# Altium integrated library Dallas Logic Delay Line.IntLib: 454 symbols (part 3 of 9)

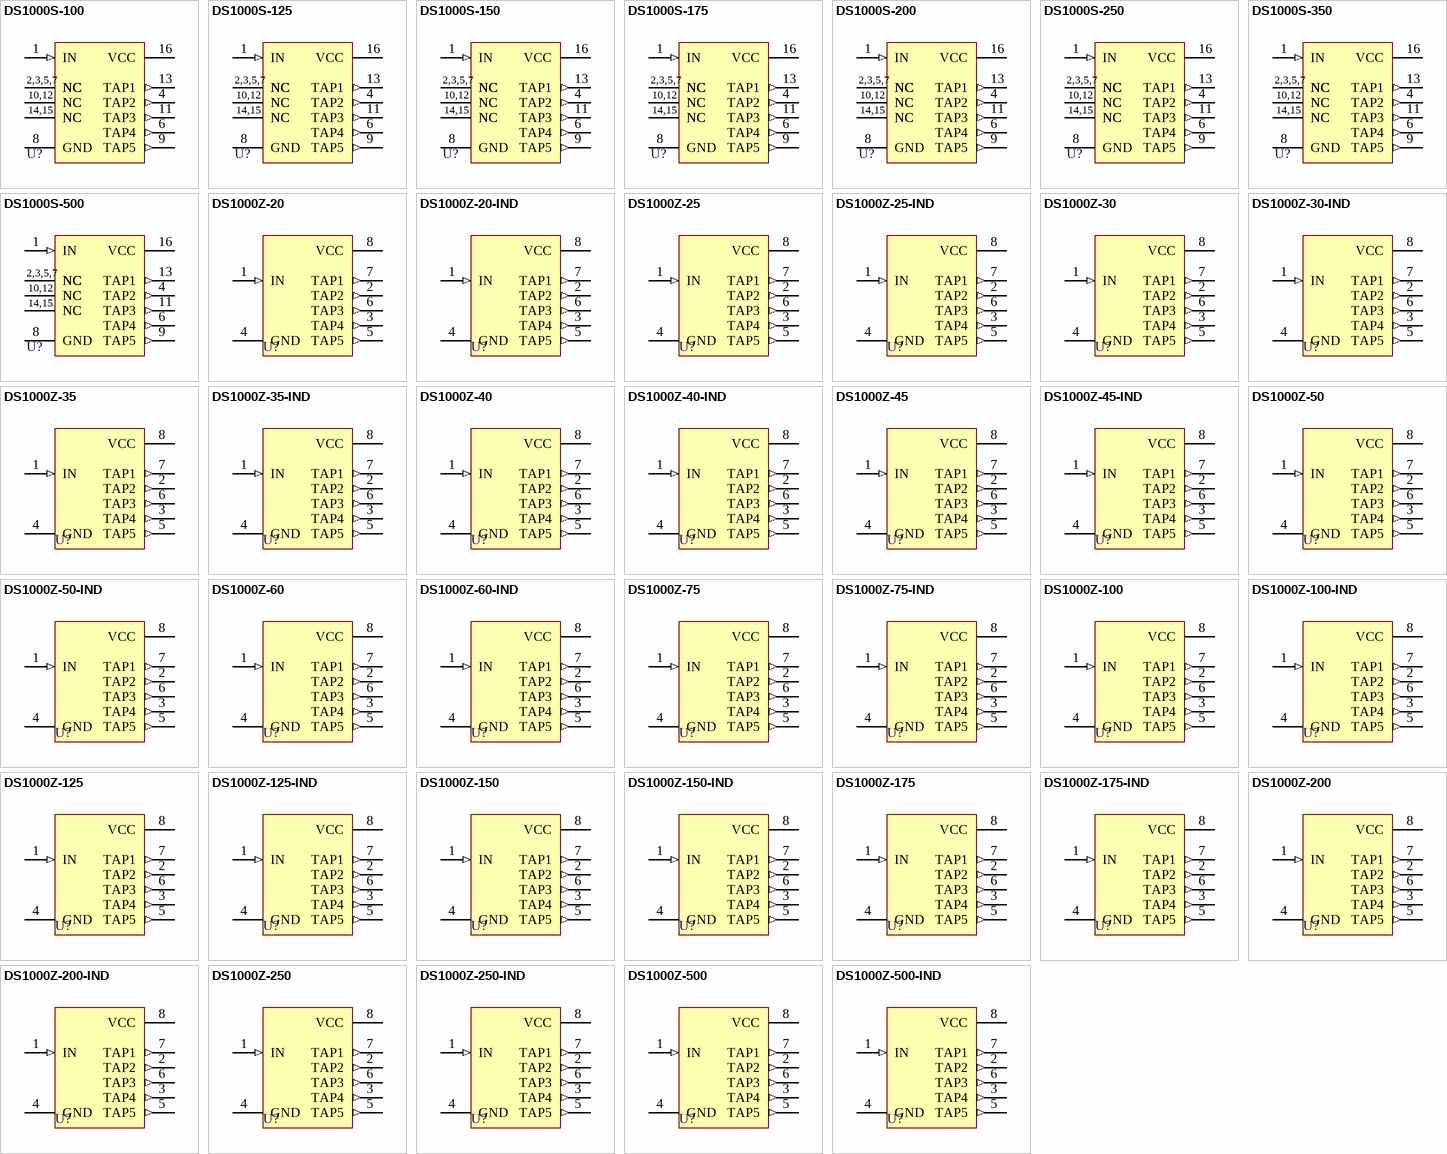
[diagram p3: symbols DS1000S-100 to DS1000Z-500-IND]

## DS1000S-100
designator U?
5-Tap Silicon Delay Line; Note: Pin numbers 2, 3, 5, 7, 10,  12, 14 and 15 are Not Connected (NC); ComponentAvailability: Obsolete; Published: 13-Oct-2000; LatestRevisionDate: 13-Apr-2006; LatestRevisionNote: IPC-7351 Footprint Added.; DatasheetVersion: Mar-1994; PackageVersion: 1994; PackageReference: SOIC16WA; Publisher: Altium Limited; PackageDescription: 16-Pin Small Outline Integrated Circuit 1.27 mm Pitch; ComponentLink1Description: Manufacturer Link; ComponentLink1URL: http://www.maxim-ic.com/
footprint SOIC16WA_N (SOIC, 16-Leads, Body 10.3x7.5mm, Pitch 1.27mm, IPC Medium Density)
footprint SOIC16WA_L (SOIC, 16-Leads, Body 10.3x7.5mm, Pitch 1.27mm, IPC High Density)
footprint SOIC16WA_M (SOIC, 16-Leads, Body 10.3x7.5mm, Pitch 1.27mm, IPC Low Density)
3D model SOIC16W (16-Pin Small Outline Integrated Circuit 1.27 mm Pitch)
pins: 1 IN (in), 2 NC, 3 NC, 4 TAP2 (out), 5 NC, 6 TAP4 (out), 7 NC, 8 GND (power), 9 TAP5 (out), 10 NC, 11 TAP3 (out), 12 NC, 13 TAP1 (out), 14 NC, 15 NC, 16 VCC (power)
text: 2,3,5,7; 10,12; 14,15

## DS1000S-125
designator U?
5-Tap Silicon Delay Line; Note: Pin numbers 2, 3, 5, 7, 10,  12, 14 and 15 are Not Connected (NC); ComponentAvailability: Obsolete; Published: 13-Oct-2000; LatestRevisionDate: 13-Apr-2006; LatestRevisionNote: IPC-7351 Footprint Added.; DatasheetVersion: Mar-1994; PackageVersion: 1994; PackageReference: SOIC16WA; Publisher: Altium Limited; PackageDescription: 16-Pin Small Outline Integrated Circuit 1.27 mm Pitch; ComponentLink1Description: Manufacturer Link; ComponentLink1URL: http://www.maxim-ic.com/
footprint SOIC16WA_N (SOIC, 16-Leads, Body 10.3x7.5mm, Pitch 1.27mm, IPC Medium Density)
footprint SOIC16WA_L (SOIC, 16-Leads, Body 10.3x7.5mm, Pitch 1.27mm, IPC High Density)
footprint SOIC16WA_M (SOIC, 16-Leads, Body 10.3x7.5mm, Pitch 1.27mm, IPC Low Density)
3D model SOIC16W (16-Pin Small Outline Integrated Circuit 1.27 mm Pitch)
pins: 1 IN (in), 2 NC, 3 NC, 4 TAP2 (out), 5 NC, 6 TAP4 (out), 7 NC, 8 GND (power), 9 TAP5 (out), 10 NC, 11 TAP3 (out), 12 NC, 13 TAP1 (out), 14 NC, 15 NC, 16 VCC (power)
text: 2,3,5,7; 10,12; 14,15

## DS1000S-150
designator U?
5-Tap Silicon Delay Line; Note: Pin numbers 2, 3, 5, 7, 10,  12, 14 and 15 are Not Connected (NC); ComponentAvailability: Obsolete; Published: 13-Oct-2000; LatestRevisionDate: 13-Apr-2006; LatestRevisionNote: IPC-7351 Footprint Added.; DatasheetVersion: Mar-1994; PackageVersion: 1994; PackageReference: SOIC16WA; Publisher: Altium Limited; PackageDescription: 16-Pin Small Outline Integrated Circuit 1.27 mm Pitch; ComponentLink1Description: Manufacturer Link; ComponentLink1URL: http://www.maxim-ic.com/
footprint SOIC16WA_N (SOIC, 16-Leads, Body 10.3x7.5mm, Pitch 1.27mm, IPC Medium Density)
footprint SOIC16WA_L (SOIC, 16-Leads, Body 10.3x7.5mm, Pitch 1.27mm, IPC High Density)
footprint SOIC16WA_M (SOIC, 16-Leads, Body 10.3x7.5mm, Pitch 1.27mm, IPC Low Density)
3D model SOIC16W (16-Pin Small Outline Integrated Circuit 1.27 mm Pitch)
pins: 1 IN (in), 2 NC, 3 NC, 4 TAP2 (out), 5 NC, 6 TAP4 (out), 7 NC, 8 GND (power), 9 TAP5 (out), 10 NC, 11 TAP3 (out), 12 NC, 13 TAP1 (out), 14 NC, 15 NC, 16 VCC (power)
text: 2,3,5,7; 10,12; 14,15

## DS1000S-175
designator U?
5-Tap Silicon Delay Line; Note: Pin numbers 2, 3, 5, 7, 10,  12, 14 and 15 are Not Connected (NC); ComponentAvailability: Obsolete; Published: 13-Oct-2000; LatestRevisionDate: 13-Apr-2006; LatestRevisionNote: IPC-7351 Footprint Added.; DatasheetVersion: Mar-1994; PackageVersion: 1994; PackageReference: SOIC16WA; Publisher: Altium Limited; PackageDescription: 16-Pin Small Outline Integrated Circuit 1.27 mm Pitch; ComponentLink1Description: Manufacturer Link; ComponentLink1URL: http://www.maxim-ic.com/
footprint SOIC16WA_N (SOIC, 16-Leads, Body 10.3x7.5mm, Pitch 1.27mm, IPC Medium Density)
footprint SOIC16WA_L (SOIC, 16-Leads, Body 10.3x7.5mm, Pitch 1.27mm, IPC High Density)
footprint SOIC16WA_M (SOIC, 16-Leads, Body 10.3x7.5mm, Pitch 1.27mm, IPC Low Density)
3D model SOIC16W (16-Pin Small Outline Integrated Circuit 1.27 mm Pitch)
pins: 1 IN (in), 2 NC, 3 NC, 4 TAP2 (out), 5 NC, 6 TAP4 (out), 7 NC, 8 GND (power), 9 TAP5 (out), 10 NC, 11 TAP3 (out), 12 NC, 13 TAP1 (out), 14 NC, 15 NC, 16 VCC (power)
text: 2,3,5,7; 10,12; 14,15

## DS1000S-200
designator U?
5-Tap Silicon Delay Line; Note: Pin numbers 2, 3, 5, 7, 10,  12, 14 and 15 are Not Connected (NC); ComponentAvailability: Obsolete; Published: 13-Oct-2000; LatestRevisionDate: 13-Apr-2006; LatestRevisionNote: IPC-7351 Footprint Added.; DatasheetVersion: Mar-1994; PackageVersion: 1994; PackageReference: SOIC16WA; Publisher: Altium Limited; PackageDescription: 16-Pin Small Outline Integrated Circuit 1.27 mm Pitch; ComponentLink1Description: Manufacturer Link; ComponentLink1URL: http://www.maxim-ic.com/
footprint SOIC16WA_N (SOIC, 16-Leads, Body 10.3x7.5mm, Pitch 1.27mm, IPC Medium Density)
footprint SOIC16WA_L (SOIC, 16-Leads, Body 10.3x7.5mm, Pitch 1.27mm, IPC High Density)
footprint SOIC16WA_M (SOIC, 16-Leads, Body 10.3x7.5mm, Pitch 1.27mm, IPC Low Density)
3D model SOIC16W (16-Pin Small Outline Integrated Circuit 1.27 mm Pitch)
pins: 1 IN (in), 2 NC, 3 NC, 4 TAP2 (out), 5 NC, 6 TAP4 (out), 7 NC, 8 GND (power), 9 TAP5 (out), 10 NC, 11 TAP3 (out), 12 NC, 13 TAP1 (out), 14 NC, 15 NC, 16 VCC (power)
text: 2,3,5,7; 10,12; 14,15

## DS1000S-250
designator U?
5-Tap Silicon Delay Line; Note: Pin numbers 2, 3, 5, 7, 10,  12, 14 and 15 are Not Connected (NC); ComponentAvailability: Obsolete; Published: 13-Oct-2000; LatestRevisionDate: 13-Apr-2006; LatestRevisionNote: IPC-7351 Footprint Added.; DatasheetVersion: Mar-1994; PackageVersion: 1994; PackageReference: SOIC16WA; Publisher: Altium Limited; PackageDescription: 16-Pin Small Outline Integrated Circuit 1.27 mm Pitch; ComponentLink1Description: Manufacturer Link; ComponentLink1URL: http://www.maxim-ic.com/
footprint SOIC16WA_N (SOIC, 16-Leads, Body 10.3x7.5mm, Pitch 1.27mm, IPC Medium Density)
footprint SOIC16WA_L (SOIC, 16-Leads, Body 10.3x7.5mm, Pitch 1.27mm, IPC High Density)
footprint SOIC16WA_M (SOIC, 16-Leads, Body 10.3x7.5mm, Pitch 1.27mm, IPC Low Density)
3D model SOIC16W (16-Pin Small Outline Integrated Circuit 1.27 mm Pitch)
pins: 1 IN (in), 2 NC, 3 NC, 4 TAP2 (out), 5 NC, 6 TAP4 (out), 7 NC, 8 GND (power), 9 TAP5 (out), 10 NC, 11 TAP3 (out), 12 NC, 13 TAP1 (out), 14 NC, 15 NC, 16 VCC (power)
text: 2,3,5,7; 10,12; 14,15

## DS1000S-350
designator U?
5-Tap Silicon Delay Line; Note: Pin numbers 2, 3, 5, 7, 10,  12, 14 and 15 are Not Connected (NC); ComponentAvailability: Obsolete; Published: 13-Oct-2000; LatestRevisionDate: 13-Apr-2006; LatestRevisionNote: IPC-7351 Footprint Added.; DatasheetVersion: Mar-1994; PackageVersion: 1994; PackageReference: SOIC16WA; Publisher: Altium Limited; PackageDescription: 16-Pin Small Outline Integrated Circuit 1.27 mm Pitch; ComponentLink1Description: Manufacturer Link; ComponentLink1URL: http://www.maxim-ic.com/
footprint SOIC16WA_N (SOIC, 16-Leads, Body 10.3x7.5mm, Pitch 1.27mm, IPC Medium Density)
footprint SOIC16WA_L (SOIC, 16-Leads, Body 10.3x7.5mm, Pitch 1.27mm, IPC High Density)
footprint SOIC16WA_M (SOIC, 16-Leads, Body 10.3x7.5mm, Pitch 1.27mm, IPC Low Density)
3D model SOIC16W (16-Pin Small Outline Integrated Circuit 1.27 mm Pitch)
pins: 1 IN (in), 2 NC, 3 NC, 4 TAP2 (out), 5 NC, 6 TAP4 (out), 7 NC, 8 GND (power), 9 TAP5 (out), 10 NC, 11 TAP3 (out), 12 NC, 13 TAP1 (out), 14 NC, 15 NC, 16 VCC (power)
text: 2,3,5,7; 10,12; 14,15

## DS1000S-500
designator U?
5-Tap Silicon Delay Line; Note: Pin numbers 2, 3, 5, 7, 10,  12, 14 and 15 are Not Connected (NC); ComponentAvailability: Obsolete; Published: 13-Oct-2000; LatestRevisionDate: 13-Apr-2006; LatestRevisionNote: IPC-7351 Footprint Added.; DatasheetVersion: Mar-1994; PackageVersion: 1994; PackageReference: SOIC16WA; Publisher: Altium Limited; PackageDescription: 16-Pin Small Outline Integrated Circuit 1.27 mm Pitch; ComponentLink1Description: Manufacturer Link; ComponentLink1URL: http://www.maxim-ic.com/
footprint SOIC16WA_N (SOIC, 16-Leads, Body 10.3x7.5mm, Pitch 1.27mm, IPC Medium Density)
footprint SOIC16WA_L (SOIC, 16-Leads, Body 10.3x7.5mm, Pitch 1.27mm, IPC High Density)
footprint SOIC16WA_M (SOIC, 16-Leads, Body 10.3x7.5mm, Pitch 1.27mm, IPC Low Density)
3D model SOIC16W (16-Pin Small Outline Integrated Circuit 1.27 mm Pitch)
pins: 1 IN (in), 2 NC, 3 NC, 4 TAP2 (out), 5 NC, 6 TAP4 (out), 7 NC, 8 GND (power), 9 TAP5 (out), 10 NC, 11 TAP3 (out), 12 NC, 13 TAP1 (out), 14 NC, 15 NC, 16 VCC (power)
text: 2,3,5,7; 10,12; 14,15

## DS1000Z-20
designator U?
5-Tap Silicon Delay Line; ComponentAvailability: Obsolete; Published: 13-Oct-2000; LatestRevisionDate: 13-Apr-2006; LatestRevisionNote: IPC-7351 Footprint Added.; DatasheetVersion: 17-Feb-1998; PackageVersion: 1999; PackageReference: SOIC8N; Publisher: Altium Limited; PackageDescription: 8-Pin Small Outline Integrated Circuit 1.27 mm Pitch; Code_IPC: SOIC127P600-8; ComponentLink1Description: Manufacturer Link; ComponentLink1URL: http://www.maxim-ic.com/
footprint SOIC8N_N (SOIC, 8-Leads, Body 4.9x3.9mm, Pitch 1.27mm, IPC Medium Density)
footprint SOIC8N_L (SOIC, 8-Leads, Body 4.9x3.9mm, Pitch 1.27mm, IPC High Density)
footprint SOIC8N_M (SOIC, 8-Leads, Body 4.9x3.9mm, Pitch 1.27mm, IPC Low Density)
3D model SOIC8N (8-Pin Small Outline Integrated Circuit 1.27 mm Pitch)
pins: 1 IN (in), 2 TAP2 (out), 3 TAP4 (out), 4 GND (power), 5 TAP5 (out), 6 TAP3 (out), 7 TAP1 (out), 8 VCC (power)

## DS1000Z-20-IND
designator U?
5-Tap High-Speed Silicon Delay Line; ComponentAvailability: Obsolete; Published: 13-Oct-2000; LatestRevisionDate: 13-Apr-2006; LatestRevisionNote: IPC-7351 Footprint Added.; DatasheetVersion: 17-Feb-1998; PackageVersion: 1999; PackageReference: SOIC8N; Publisher: Altium Limited; PackageDescription: 8-Pin Small Outline Integrated Circuit 1.27 mm Pitch; Code_IPC: SOIC127P600-8; ComponentLink1Description: Manufacturer Link; ComponentLink1URL: http://www.maxim-ic.com/
footprint SOIC8N_N (SOIC, 8-Leads, Body 4.9x3.9mm, Pitch 1.27mm, IPC Medium Density)
footprint SOIC8N_L (SOIC, 8-Leads, Body 4.9x3.9mm, Pitch 1.27mm, IPC High Density)
footprint SOIC8N_M (SOIC, 8-Leads, Body 4.9x3.9mm, Pitch 1.27mm, IPC Low Density)
3D model SOIC8N (8-Pin Small Outline Integrated Circuit 1.27 mm Pitch)
pins: 1 IN (in), 2 TAP2 (out), 3 TAP4 (out), 4 GND (power), 5 TAP5 (out), 6 TAP3 (out), 7 TAP1 (out), 8 VCC (power)

## DS1000Z-25
designator U?
5-Tap Silicon Delay Line; ComponentAvailability: Obsolete; Published: 13-Oct-2000; LatestRevisionDate: 13-Apr-2006; LatestRevisionNote: IPC-7351 Footprint Added.; DatasheetVersion: 17-Feb-1998; PackageVersion: 1999; PackageReference: SOIC8N; Publisher: Altium Limited; PackageDescription: 8-Pin Small Outline Integrated Circuit 1.27 mm Pitch; Code_IPC: SOIC127P600-8; ComponentLink1Description: Manufacturer Link; ComponentLink1URL: http://www.maxim-ic.com/
footprint SOIC8N_N (SOIC, 8-Leads, Body 4.9x3.9mm, Pitch 1.27mm, IPC Medium Density)
footprint SOIC8N_L (SOIC, 8-Leads, Body 4.9x3.9mm, Pitch 1.27mm, IPC High Density)
footprint SOIC8N_M (SOIC, 8-Leads, Body 4.9x3.9mm, Pitch 1.27mm, IPC Low Density)
3D model SOIC8N (8-Pin Small Outline Integrated Circuit 1.27 mm Pitch)
pins: 1 IN (in), 2 TAP2 (out), 3 TAP4 (out), 4 GND (power), 5 TAP5 (out), 6 TAP3 (out), 7 TAP1 (out), 8 VCC (power)

## DS1000Z-25-IND
designator U?
5-Tap High-Speed Silicon Delay Line; ComponentAvailability: Obsolete; Published: 13-Oct-2000; LatestRevisionDate: 13-Apr-2006; LatestRevisionNote: IPC-7351 Footprint Added.; DatasheetVersion: 17-Feb-1998; PackageVersion: 1999; PackageReference: SOIC8N; Publisher: Altium Limited; PackageDescription: 8-Pin Small Outline Integrated Circuit 1.27 mm Pitch; Code_IPC: SOIC127P600-8; ComponentLink1Description: Manufacturer Link; ComponentLink1URL: http://www.maxim-ic.com/
footprint SOIC8N_N (SOIC, 8-Leads, Body 4.9x3.9mm, Pitch 1.27mm, IPC Medium Density)
footprint SOIC8N_L (SOIC, 8-Leads, Body 4.9x3.9mm, Pitch 1.27mm, IPC High Density)
footprint SOIC8N_M (SOIC, 8-Leads, Body 4.9x3.9mm, Pitch 1.27mm, IPC Low Density)
3D model SOIC8N (8-Pin Small Outline Integrated Circuit 1.27 mm Pitch)
pins: 1 IN (in), 2 TAP2 (out), 3 TAP4 (out), 4 GND (power), 5 TAP5 (out), 6 TAP3 (out), 7 TAP1 (out), 8 VCC (power)

## DS1000Z-30
designator U?
5-Tap Silicon Delay Line; ComponentAvailability: Obsolete; Published: 13-Oct-2000; LatestRevisionDate: 13-Apr-2006; LatestRevisionNote: IPC-7351 Footprint Added.; DatasheetVersion: 17-Feb-1998; PackageVersion: 1999; PackageReference: SOIC8N; Publisher: Altium Limited; PackageDescription: 8-Pin Small Outline Integrated Circuit 1.27 mm Pitch; Code_IPC: SOIC127P600-8; ComponentLink1Description: Manufacturer Link; ComponentLink1URL: http://www.maxim-ic.com/
footprint SOIC8N_N (SOIC, 8-Leads, Body 4.9x3.9mm, Pitch 1.27mm, IPC Medium Density)
footprint SOIC8N_L (SOIC, 8-Leads, Body 4.9x3.9mm, Pitch 1.27mm, IPC High Density)
footprint SOIC8N_M (SOIC, 8-Leads, Body 4.9x3.9mm, Pitch 1.27mm, IPC Low Density)
3D model SOIC8N (8-Pin Small Outline Integrated Circuit 1.27 mm Pitch)
pins: 1 IN (in), 2 TAP2 (out), 3 TAP4 (out), 4 GND (power), 5 TAP5 (out), 6 TAP3 (out), 7 TAP1 (out), 8 VCC (power)

## DS1000Z-30-IND
designator U?
5-Tap High-Speed Silicon Delay Line; ComponentAvailability: Obsolete; Published: 13-Oct-2000; LatestRevisionDate: 13-Apr-2006; LatestRevisionNote: IPC-7351 Footprint Added.; DatasheetVersion: 17-Feb-1998; PackageVersion: 1999; PackageReference: SOIC8N; Publisher: Altium Limited; PackageDescription: 8-Pin Small Outline Integrated Circuit 1.27 mm Pitch; Code_IPC: SOIC127P600-8; ComponentLink1Description: Manufacturer Link; ComponentLink1URL: http://www.maxim-ic.com/
footprint SOIC8N_N (SOIC, 8-Leads, Body 4.9x3.9mm, Pitch 1.27mm, IPC Medium Density)
footprint SOIC8N_L (SOIC, 8-Leads, Body 4.9x3.9mm, Pitch 1.27mm, IPC High Density)
footprint SOIC8N_M (SOIC, 8-Leads, Body 4.9x3.9mm, Pitch 1.27mm, IPC Low Density)
3D model SOIC8N (8-Pin Small Outline Integrated Circuit 1.27 mm Pitch)
pins: 1 IN (in), 2 TAP2 (out), 3 TAP4 (out), 4 GND (power), 5 TAP5 (out), 6 TAP3 (out), 7 TAP1 (out), 8 VCC (power)

## DS1000Z-35
designator U?
5-Tap Silicon Delay Line; ComponentAvailability: Obsolete; Published: 13-Oct-2000; LatestRevisionDate: 13-Apr-2006; LatestRevisionNote: IPC-7351 Footprint Added.; DatasheetVersion: 17-Feb-1998; PackageVersion: 1999; PackageReference: SOIC8N; Publisher: Altium Limited; PackageDescription: 8-Pin Small Outline Integrated Circuit 1.27 mm Pitch; Code_IPC: SOIC127P600-8; ComponentLink1Description: Manufacturer Link; ComponentLink1URL: http://www.maxim-ic.com/
footprint SOIC8N_N (SOIC, 8-Leads, Body 4.9x3.9mm, Pitch 1.27mm, IPC Medium Density)
footprint SOIC8N_L (SOIC, 8-Leads, Body 4.9x3.9mm, Pitch 1.27mm, IPC High Density)
footprint SOIC8N_M (SOIC, 8-Leads, Body 4.9x3.9mm, Pitch 1.27mm, IPC Low Density)
3D model SOIC8N (8-Pin Small Outline Integrated Circuit 1.27 mm Pitch)
pins: 1 IN (in), 2 TAP2 (out), 3 TAP4 (out), 4 GND (power), 5 TAP5 (out), 6 TAP3 (out), 7 TAP1 (out), 8 VCC (power)

## DS1000Z-35-IND
designator U?
5-Tap High-Speed Silicon Delay Line; ComponentAvailability: Obsolete; Published: 13-Oct-2000; LatestRevisionDate: 13-Apr-2006; LatestRevisionNote: IPC-7351 Footprint Added.; DatasheetVersion: 17-Feb-1998; PackageVersion: 1999; PackageReference: SOIC8N; Publisher: Altium Limited; PackageDescription: 8-Pin Small Outline Integrated Circuit 1.27 mm Pitch; Code_IPC: SOIC127P600-8; ComponentLink1Description: Manufacturer Link; ComponentLink1URL: http://www.maxim-ic.com/
footprint SOIC8N_N (SOIC, 8-Leads, Body 4.9x3.9mm, Pitch 1.27mm, IPC Medium Density)
footprint SOIC8N_L (SOIC, 8-Leads, Body 4.9x3.9mm, Pitch 1.27mm, IPC High Density)
footprint SOIC8N_M (SOIC, 8-Leads, Body 4.9x3.9mm, Pitch 1.27mm, IPC Low Density)
3D model SOIC8N (8-Pin Small Outline Integrated Circuit 1.27 mm Pitch)
pins: 1 IN (in), 2 TAP2 (out), 3 TAP4 (out), 4 GND (power), 5 TAP5 (out), 6 TAP3 (out), 7 TAP1 (out), 8 VCC (power)

## DS1000Z-40
designator U?
5-Tap Silicon Delay Line; ComponentAvailability: Obsolete; Published: 13-Oct-2000; LatestRevisionDate: 13-Apr-2006; LatestRevisionNote: IPC-7351 Footprint Added.; DatasheetVersion: 17-Feb-1998; PackageVersion: 1999; PackageReference: SOIC8N; Publisher: Altium Limited; PackageDescription: 8-Pin Small Outline Integrated Circuit 1.27 mm Pitch; Code_IPC: SOIC127P600-8; ComponentLink1Description: Manufacturer Link; ComponentLink1URL: http://www.maxim-ic.com/
footprint SOIC8N_N (SOIC, 8-Leads, Body 4.9x3.9mm, Pitch 1.27mm, IPC Medium Density)
footprint SOIC8N_L (SOIC, 8-Leads, Body 4.9x3.9mm, Pitch 1.27mm, IPC High Density)
footprint SOIC8N_M (SOIC, 8-Leads, Body 4.9x3.9mm, Pitch 1.27mm, IPC Low Density)
3D model SOIC8N (8-Pin Small Outline Integrated Circuit 1.27 mm Pitch)
pins: 1 IN (in), 2 TAP2 (out), 3 TAP4 (out), 4 GND (power), 5 TAP5 (out), 6 TAP3 (out), 7 TAP1 (out), 8 VCC (power)

## DS1000Z-40-IND
designator U?
5-Tap High-Speed Silicon Delay Line; ComponentAvailability: Obsolete; Published: 13-Oct-2000; LatestRevisionDate: 13-Apr-2006; LatestRevisionNote: IPC-7351 Footprint Added.; DatasheetVersion: 17-Feb-1998; PackageVersion: 1999; PackageReference: SOIC8N; Publisher: Altium Limited; PackageDescription: 8-Pin Small Outline Integrated Circuit 1.27 mm Pitch; Code_IPC: SOIC127P600-8; ComponentLink1Description: Manufacturer Link; ComponentLink1URL: http://www.maxim-ic.com/
footprint SOIC8N_N (SOIC, 8-Leads, Body 4.9x3.9mm, Pitch 1.27mm, IPC Medium Density)
footprint SOIC8N_L (SOIC, 8-Leads, Body 4.9x3.9mm, Pitch 1.27mm, IPC High Density)
footprint SOIC8N_M (SOIC, 8-Leads, Body 4.9x3.9mm, Pitch 1.27mm, IPC Low Density)
3D model SOIC8N (8-Pin Small Outline Integrated Circuit 1.27 mm Pitch)
pins: 1 IN (in), 2 TAP2 (out), 3 TAP4 (out), 4 GND (power), 5 TAP5 (out), 6 TAP3 (out), 7 TAP1 (out), 8 VCC (power)

## DS1000Z-45
designator U?
5-Tap Silicon Delay Line; ComponentAvailability: Obsolete; Published: 13-Oct-2000; LatestRevisionDate: 13-Apr-2006; LatestRevisionNote: IPC-7351 Footprint Added.; DatasheetVersion: 17-Feb-1998; PackageVersion: 1999; PackageReference: SOIC8N; Publisher: Altium Limited; PackageDescription: 8-Pin Small Outline Integrated Circuit 1.27 mm Pitch; Code_IPC: SOIC127P600-8; ComponentLink1Description: Manufacturer Link; ComponentLink1URL: http://www.maxim-ic.com/
footprint SOIC8N_N (SOIC, 8-Leads, Body 4.9x3.9mm, Pitch 1.27mm, IPC Medium Density)
footprint SOIC8N_L (SOIC, 8-Leads, Body 4.9x3.9mm, Pitch 1.27mm, IPC High Density)
footprint SOIC8N_M (SOIC, 8-Leads, Body 4.9x3.9mm, Pitch 1.27mm, IPC Low Density)
3D model SOIC8N (8-Pin Small Outline Integrated Circuit 1.27 mm Pitch)
pins: 1 IN (in), 2 TAP2 (out), 3 TAP4 (out), 4 GND (power), 5 TAP5 (out), 6 TAP3 (out), 7 TAP1 (out), 8 VCC (power)

## DS1000Z-45-IND
designator U?
5-Tap High-Speed Silicon Delay Line; ComponentAvailability: Obsolete; Published: 13-Oct-2000; LatestRevisionDate: 13-Apr-2006; LatestRevisionNote: IPC-7351 Footprint Added.; DatasheetVersion: 17-Feb-1998; PackageVersion: 1999; PackageReference: SOIC8N; Publisher: Altium Limited; PackageDescription: 8-Pin Small Outline Integrated Circuit 1.27 mm Pitch; Code_IPC: SOIC127P600-8; ComponentLink1Description: Manufacturer Link; ComponentLink1URL: http://www.maxim-ic.com/
footprint SOIC8N_N (SOIC, 8-Leads, Body 4.9x3.9mm, Pitch 1.27mm, IPC Medium Density)
footprint SOIC8N_L (SOIC, 8-Leads, Body 4.9x3.9mm, Pitch 1.27mm, IPC High Density)
footprint SOIC8N_M (SOIC, 8-Leads, Body 4.9x3.9mm, Pitch 1.27mm, IPC Low Density)
3D model SOIC8N (8-Pin Small Outline Integrated Circuit 1.27 mm Pitch)
pins: 1 IN (in), 2 TAP2 (out), 3 TAP4 (out), 4 GND (power), 5 TAP5 (out), 6 TAP3 (out), 7 TAP1 (out), 8 VCC (power)

## DS1000Z-50
designator U?
5-Tap Silicon Delay Line; ComponentAvailability: Obsolete; Published: 13-Oct-2000; LatestRevisionDate: 13-Apr-2006; LatestRevisionNote: IPC-7351 Footprint Added.; DatasheetVersion: 17-Feb-1998; PackageVersion: 1999; PackageReference: SOIC8N; Publisher: Altium Limited; PackageDescription: 8-Pin Small Outline Integrated Circuit 1.27 mm Pitch; Code_IPC: SOIC127P600-8; ComponentLink1Description: Manufacturer Link; ComponentLink1URL: http://www.maxim-ic.com/
footprint SOIC8N_N (SOIC, 8-Leads, Body 4.9x3.9mm, Pitch 1.27mm, IPC Medium Density)
footprint SOIC8N_L (SOIC, 8-Leads, Body 4.9x3.9mm, Pitch 1.27mm, IPC High Density)
footprint SOIC8N_M (SOIC, 8-Leads, Body 4.9x3.9mm, Pitch 1.27mm, IPC Low Density)
3D model SOIC8N (8-Pin Small Outline Integrated Circuit 1.27 mm Pitch)
pins: 1 IN (in), 2 TAP2 (out), 3 TAP4 (out), 4 GND (power), 5 TAP5 (out), 6 TAP3 (out), 7 TAP1 (out), 8 VCC (power)

## DS1000Z-50-IND
designator U?
5-Tap High-Speed Silicon Delay Line; ComponentAvailability: Obsolete; Published: 13-Oct-2000; LatestRevisionDate: 13-Apr-2006; LatestRevisionNote: IPC-7351 Footprint Added.; DatasheetVersion: 17-Feb-1998; PackageVersion: 1999; PackageReference: SOIC8N; Publisher: Altium Limited; PackageDescription: 8-Pin Small Outline Integrated Circuit 1.27 mm Pitch; Code_IPC: SOIC127P600-8; ComponentLink1Description: Manufacturer Link; ComponentLink1URL: http://www.maxim-ic.com/
footprint SOIC8N_N (SOIC, 8-Leads, Body 4.9x3.9mm, Pitch 1.27mm, IPC Medium Density)
footprint SOIC8N_L (SOIC, 8-Leads, Body 4.9x3.9mm, Pitch 1.27mm, IPC High Density)
footprint SOIC8N_M (SOIC, 8-Leads, Body 4.9x3.9mm, Pitch 1.27mm, IPC Low Density)
3D model SOIC8N (8-Pin Small Outline Integrated Circuit 1.27 mm Pitch)
pins: 1 IN (in), 2 TAP2 (out), 3 TAP4 (out), 4 GND (power), 5 TAP5 (out), 6 TAP3 (out), 7 TAP1 (out), 8 VCC (power)

## DS1000Z-60
designator U?
5-Tap Silicon Delay Line; ComponentAvailability: Obsolete; Published: 13-Oct-2000; LatestRevisionDate: 13-Apr-2006; LatestRevisionNote: IPC-7351 Footprint Added.; DatasheetVersion: 17-Feb-1998; PackageVersion: 1999; PackageReference: SOIC8N; Publisher: Altium Limited; PackageDescription: 8-Pin Small Outline Integrated Circuit 1.27 mm Pitch; Code_IPC: SOIC127P600-8; ComponentLink1Description: Manufacturer Link; ComponentLink1URL: http://www.maxim-ic.com/
footprint SOIC8N_N (SOIC, 8-Leads, Body 4.9x3.9mm, Pitch 1.27mm, IPC Medium Density)
footprint SOIC8N_L (SOIC, 8-Leads, Body 4.9x3.9mm, Pitch 1.27mm, IPC High Density)
footprint SOIC8N_M (SOIC, 8-Leads, Body 4.9x3.9mm, Pitch 1.27mm, IPC Low Density)
3D model SOIC8N (8-Pin Small Outline Integrated Circuit 1.27 mm Pitch)
pins: 1 IN (in), 2 TAP2 (out), 3 TAP4 (out), 4 GND (power), 5 TAP5 (out), 6 TAP3 (out), 7 TAP1 (out), 8 VCC (power)

## DS1000Z-60-IND
designator U?
5-Tap High-Speed Silicon Delay Line; ComponentAvailability: Obsolete; Published: 13-Oct-2000; LatestRevisionDate: 13-Apr-2006; LatestRevisionNote: IPC-7351 Footprint Added.; DatasheetVersion: 17-Feb-1998; PackageVersion: 1999; PackageReference: SOIC8N; Publisher: Altium Limited; PackageDescription: 8-Pin Small Outline Integrated Circuit 1.27 mm Pitch; Code_IPC: SOIC127P600-8; ComponentLink1Description: Manufacturer Link; ComponentLink1URL: http://www.maxim-ic.com/
footprint SOIC8N_N (SOIC, 8-Leads, Body 4.9x3.9mm, Pitch 1.27mm, IPC Medium Density)
footprint SOIC8N_L (SOIC, 8-Leads, Body 4.9x3.9mm, Pitch 1.27mm, IPC High Density)
footprint SOIC8N_M (SOIC, 8-Leads, Body 4.9x3.9mm, Pitch 1.27mm, IPC Low Density)
3D model SOIC8N (8-Pin Small Outline Integrated Circuit 1.27 mm Pitch)
pins: 1 IN (in), 2 TAP2 (out), 3 TAP4 (out), 4 GND (power), 5 TAP5 (out), 6 TAP3 (out), 7 TAP1 (out), 8 VCC (power)

## DS1000Z-75
designator U?
5-Tap Silicon Delay Line; ComponentAvailability: Obsolete; Published: 13-Oct-2000; LatestRevisionDate: 13-Apr-2006; LatestRevisionNote: IPC-7351 Footprint Added.; DatasheetVersion: 17-Feb-1998; PackageVersion: 1999; PackageReference: SOIC8N; Publisher: Altium Limited; PackageDescription: 8-Pin Small Outline Integrated Circuit 1.27 mm Pitch; Code_IPC: SOIC127P600-8; ComponentLink1Description: Manufacturer Link; ComponentLink1URL: http://www.maxim-ic.com/
footprint SOIC8N_N (SOIC, 8-Leads, Body 4.9x3.9mm, Pitch 1.27mm, IPC Medium Density)
footprint SOIC8N_L (SOIC, 8-Leads, Body 4.9x3.9mm, Pitch 1.27mm, IPC High Density)
footprint SOIC8N_M (SOIC, 8-Leads, Body 4.9x3.9mm, Pitch 1.27mm, IPC Low Density)
3D model SOIC8N (8-Pin Small Outline Integrated Circuit 1.27 mm Pitch)
pins: 1 IN (in), 2 TAP2 (out), 3 TAP4 (out), 4 GND (power), 5 TAP5 (out), 6 TAP3 (out), 7 TAP1 (out), 8 VCC (power)

## DS1000Z-75-IND
designator U?
5-Tap High-Speed Silicon Delay Line; ComponentAvailability: Obsolete; Published: 13-Oct-2000; LatestRevisionDate: 13-Apr-2006; LatestRevisionNote: IPC-7351 Footprint Added.; DatasheetVersion: 17-Feb-1998; PackageVersion: 1999; PackageReference: SOIC8N; Publisher: Altium Limited; PackageDescription: 8-Pin Small Outline Integrated Circuit 1.27 mm Pitch; Code_IPC: SOIC127P600-8; ComponentLink1Description: Manufacturer Link; ComponentLink1URL: http://www.maxim-ic.com/
footprint SOIC8N_N (SOIC, 8-Leads, Body 4.9x3.9mm, Pitch 1.27mm, IPC Medium Density)
footprint SOIC8N_L (SOIC, 8-Leads, Body 4.9x3.9mm, Pitch 1.27mm, IPC High Density)
footprint SOIC8N_M (SOIC, 8-Leads, Body 4.9x3.9mm, Pitch 1.27mm, IPC Low Density)
3D model SOIC8N (8-Pin Small Outline Integrated Circuit 1.27 mm Pitch)
pins: 1 IN (in), 2 TAP2 (out), 3 TAP4 (out), 4 GND (power), 5 TAP5 (out), 6 TAP3 (out), 7 TAP1 (out), 8 VCC (power)

## DS1000Z-100
designator U?
5-Tap Silicon Delay Line; ComponentAvailability: Obsolete; Published: 13-Oct-2000; LatestRevisionDate: 13-Apr-2006; LatestRevisionNote: IPC-7351 Footprint Added.; DatasheetVersion: 17-Feb-1998; PackageVersion: 1999; PackageReference: SOIC8N; Publisher: Altium Limited; PackageDescription: 8-Pin Small Outline Integrated Circuit 1.27 mm Pitch; Code_IPC: SOIC127P600-8; ComponentLink1Description: Manufacturer Link; ComponentLink1URL: http://www.maxim-ic.com/
footprint SOIC8N_N (SOIC, 8-Leads, Body 4.9x3.9mm, Pitch 1.27mm, IPC Medium Density)
footprint SOIC8N_L (SOIC, 8-Leads, Body 4.9x3.9mm, Pitch 1.27mm, IPC High Density)
footprint SOIC8N_M (SOIC, 8-Leads, Body 4.9x3.9mm, Pitch 1.27mm, IPC Low Density)
3D model SOIC8N (8-Pin Small Outline Integrated Circuit 1.27 mm Pitch)
pins: 1 IN (in), 2 TAP2 (out), 3 TAP4 (out), 4 GND (power), 5 TAP5 (out), 6 TAP3 (out), 7 TAP1 (out), 8 VCC (power)

## DS1000Z-100-IND
designator U?
5-Tap High-Speed Silicon Delay Line; ComponentAvailability: Obsolete; Published: 13-Oct-2000; LatestRevisionDate: 13-Apr-2006; LatestRevisionNote: IPC-7351 Footprint Added.; DatasheetVersion: 17-Feb-1998; PackageVersion: 1999; PackageReference: SOIC8N; Publisher: Altium Limited; PackageDescription: 8-Pin Small Outline Integrated Circuit 1.27 mm Pitch; Code_IPC: SOIC127P600-8; ComponentLink1Description: Manufacturer Link; ComponentLink1URL: http://www.maxim-ic.com/
footprint SOIC8N_N (SOIC, 8-Leads, Body 4.9x3.9mm, Pitch 1.27mm, IPC Medium Density)
footprint SOIC8N_L (SOIC, 8-Leads, Body 4.9x3.9mm, Pitch 1.27mm, IPC High Density)
footprint SOIC8N_M (SOIC, 8-Leads, Body 4.9x3.9mm, Pitch 1.27mm, IPC Low Density)
3D model SOIC8N (8-Pin Small Outline Integrated Circuit 1.27 mm Pitch)
pins: 1 IN (in), 2 TAP2 (out), 3 TAP4 (out), 4 GND (power), 5 TAP5 (out), 6 TAP3 (out), 7 TAP1 (out), 8 VCC (power)

## DS1000Z-125
designator U?
5-Tap Silicon Delay Line; ComponentAvailability: Obsolete; Published: 13-Oct-2000; LatestRevisionDate: 13-Apr-2006; LatestRevisionNote: IPC-7351 Footprint Added.; DatasheetVersion: 17-Feb-1998; PackageVersion: 1999; PackageReference: SOIC8N; Publisher: Altium Limited; PackageDescription: 8-Pin Small Outline Integrated Circuit 1.27 mm Pitch; Code_IPC: SOIC127P600-8; ComponentLink1Description: Manufacturer Link; ComponentLink1URL: http://www.maxim-ic.com/
footprint SOIC8N_N (SOIC, 8-Leads, Body 4.9x3.9mm, Pitch 1.27mm, IPC Medium Density)
footprint SOIC8N_L (SOIC, 8-Leads, Body 4.9x3.9mm, Pitch 1.27mm, IPC High Density)
footprint SOIC8N_M (SOIC, 8-Leads, Body 4.9x3.9mm, Pitch 1.27mm, IPC Low Density)
3D model SOIC8N (8-Pin Small Outline Integrated Circuit 1.27 mm Pitch)
pins: 1 IN (in), 2 TAP2 (out), 3 TAP4 (out), 4 GND (power), 5 TAP5 (out), 6 TAP3 (out), 7 TAP1 (out), 8 VCC (power)

## DS1000Z-125-IND
designator U?
5-Tap High-Speed Silicon Delay Line; ComponentAvailability: Obsolete; Published: 13-Oct-2000; LatestRevisionDate: 13-Apr-2006; LatestRevisionNote: IPC-7351 Footprint Added.; DatasheetVersion: 17-Feb-1998; PackageVersion: 1999; PackageReference: SOIC8N; Publisher: Altium Limited; PackageDescription: 8-Pin Small Outline Integrated Circuit 1.27 mm Pitch; Code_IPC: SOIC127P600-8; ComponentLink1Description: Manufacturer Link; ComponentLink1URL: http://www.maxim-ic.com/
footprint SOIC8N_N (SOIC, 8-Leads, Body 4.9x3.9mm, Pitch 1.27mm, IPC Medium Density)
footprint SOIC8N_L (SOIC, 8-Leads, Body 4.9x3.9mm, Pitch 1.27mm, IPC High Density)
footprint SOIC8N_M (SOIC, 8-Leads, Body 4.9x3.9mm, Pitch 1.27mm, IPC Low Density)
3D model SOIC8N (8-Pin Small Outline Integrated Circuit 1.27 mm Pitch)
pins: 1 IN (in), 2 TAP2 (out), 3 TAP4 (out), 4 GND (power), 5 TAP5 (out), 6 TAP3 (out), 7 TAP1 (out), 8 VCC (power)

## DS1000Z-150
designator U?
5-Tap Silicon Delay Line; ComponentAvailability: Obsolete; Published: 13-Oct-2000; LatestRevisionDate: 13-Apr-2006; LatestRevisionNote: IPC-7351 Footprint Added.; DatasheetVersion: 17-Feb-1998; PackageVersion: 1999; PackageReference: SOIC8N; Publisher: Altium Limited; PackageDescription: 8-Pin Small Outline Integrated Circuit 1.27 mm Pitch; Code_IPC: SOIC127P600-8; ComponentLink1Description: Manufacturer Link; ComponentLink1URL: http://www.maxim-ic.com/
footprint SOIC8N_N (SOIC, 8-Leads, Body 4.9x3.9mm, Pitch 1.27mm, IPC Medium Density)
footprint SOIC8N_L (SOIC, 8-Leads, Body 4.9x3.9mm, Pitch 1.27mm, IPC High Density)
footprint SOIC8N_M (SOIC, 8-Leads, Body 4.9x3.9mm, Pitch 1.27mm, IPC Low Density)
3D model SOIC8N (8-Pin Small Outline Integrated Circuit 1.27 mm Pitch)
pins: 1 IN (in), 2 TAP2 (out), 3 TAP4 (out), 4 GND (power), 5 TAP5 (out), 6 TAP3 (out), 7 TAP1 (out), 8 VCC (power)

## DS1000Z-150-IND
designator U?
5-Tap High-Speed Silicon Delay Line; ComponentAvailability: Obsolete; Published: 13-Oct-2000; LatestRevisionDate: 13-Apr-2006; LatestRevisionNote: IPC-7351 Footprint Added.; DatasheetVersion: 17-Feb-1998; PackageVersion: 1999; PackageReference: SOIC8N; Publisher: Altium Limited; PackageDescription: 8-Pin Small Outline Integrated Circuit 1.27 mm Pitch; Code_IPC: SOIC127P600-8; ComponentLink1Description: Manufacturer Link; ComponentLink1URL: http://www.maxim-ic.com/
footprint SOIC8N_N (SOIC, 8-Leads, Body 4.9x3.9mm, Pitch 1.27mm, IPC Medium Density)
footprint SOIC8N_L (SOIC, 8-Leads, Body 4.9x3.9mm, Pitch 1.27mm, IPC High Density)
footprint SOIC8N_M (SOIC, 8-Leads, Body 4.9x3.9mm, Pitch 1.27mm, IPC Low Density)
3D model SOIC8N (8-Pin Small Outline Integrated Circuit 1.27 mm Pitch)
pins: 1 IN (in), 2 TAP2 (out), 3 TAP4 (out), 4 GND (power), 5 TAP5 (out), 6 TAP3 (out), 7 TAP1 (out), 8 VCC (power)

## DS1000Z-175
designator U?
5-Tap Silicon Delay Line; ComponentAvailability: Obsolete; Published: 13-Oct-2000; LatestRevisionDate: 13-Apr-2006; LatestRevisionNote: IPC-7351 Footprint Added.; DatasheetVersion: 17-Feb-1998; PackageVersion: 1999; PackageReference: SOIC8N; Publisher: Altium Limited; PackageDescription: 8-Pin Small Outline Integrated Circuit 1.27 mm Pitch; Code_IPC: SOIC127P600-8; ComponentLink1Description: Manufacturer Link; ComponentLink1URL: http://www.maxim-ic.com/
footprint SOIC8N_N (SOIC, 8-Leads, Body 4.9x3.9mm, Pitch 1.27mm, IPC Medium Density)
footprint SOIC8N_L (SOIC, 8-Leads, Body 4.9x3.9mm, Pitch 1.27mm, IPC High Density)
footprint SOIC8N_M (SOIC, 8-Leads, Body 4.9x3.9mm, Pitch 1.27mm, IPC Low Density)
3D model SOIC8N (8-Pin Small Outline Integrated Circuit 1.27 mm Pitch)
pins: 1 IN (in), 2 TAP2 (out), 3 TAP4 (out), 4 GND (power), 5 TAP5 (out), 6 TAP3 (out), 7 TAP1 (out), 8 VCC (power)

## DS1000Z-175-IND
designator U?
5-Tap High-Speed Silicon Delay Line; ComponentAvailability: Obsolete; Published: 13-Oct-2000; LatestRevisionDate: 13-Apr-2006; LatestRevisionNote: IPC-7351 Footprint Added.; DatasheetVersion: 17-Feb-1998; PackageVersion: 1999; PackageReference: SOIC8N; Publisher: Altium Limited; PackageDescription: 8-Pin Small Outline Integrated Circuit 1.27 mm Pitch; Code_IPC: SOIC127P600-8; ComponentLink1Description: Manufacturer Link; ComponentLink1URL: http://www.maxim-ic.com/
footprint SOIC8N_N (SOIC, 8-Leads, Body 4.9x3.9mm, Pitch 1.27mm, IPC Medium Density)
footprint SOIC8N_L (SOIC, 8-Leads, Body 4.9x3.9mm, Pitch 1.27mm, IPC High Density)
footprint SOIC8N_M (SOIC, 8-Leads, Body 4.9x3.9mm, Pitch 1.27mm, IPC Low Density)
3D model SOIC8N (8-Pin Small Outline Integrated Circuit 1.27 mm Pitch)
pins: 1 IN (in), 2 TAP2 (out), 3 TAP4 (out), 4 GND (power), 5 TAP5 (out), 6 TAP3 (out), 7 TAP1 (out), 8 VCC (power)

## DS1000Z-200
designator U?
5-Tap Silicon Delay Line; ComponentAvailability: Obsolete; Published: 13-Oct-2000; LatestRevisionDate: 13-Apr-2006; LatestRevisionNote: IPC-7351 Footprint Added.; DatasheetVersion: 17-Feb-1998; PackageVersion: 1999; PackageReference: SOIC8N; Publisher: Altium Limited; PackageDescription: 8-Pin Small Outline Integrated Circuit 1.27 mm Pitch; Code_IPC: SOIC127P600-8; ComponentLink1Description: Manufacturer Link; ComponentLink1URL: http://www.maxim-ic.com/
footprint SOIC8N_N (SOIC, 8-Leads, Body 4.9x3.9mm, Pitch 1.27mm, IPC Medium Density)
footprint SOIC8N_L (SOIC, 8-Leads, Body 4.9x3.9mm, Pitch 1.27mm, IPC High Density)
footprint SOIC8N_M (SOIC, 8-Leads, Body 4.9x3.9mm, Pitch 1.27mm, IPC Low Density)
3D model SOIC8N (8-Pin Small Outline Integrated Circuit 1.27 mm Pitch)
pins: 1 IN (in), 2 TAP2 (out), 3 TAP4 (out), 4 GND (power), 5 TAP5 (out), 6 TAP3 (out), 7 TAP1 (out), 8 VCC (power)

## DS1000Z-200-IND
designator U?
5-Tap High-Speed Silicon Delay Line; ComponentAvailability: Obsolete; Published: 13-Oct-2000; LatestRevisionDate: 13-Apr-2006; LatestRevisionNote: IPC-7351 Footprint Added.; DatasheetVersion: 17-Feb-1998; PackageVersion: 1999; PackageReference: SOIC8N; Publisher: Altium Limited; PackageDescription: 8-Pin Small Outline Integrated Circuit 1.27 mm Pitch; Code_IPC: SOIC127P600-8; ComponentLink1Description: Manufacturer Link; ComponentLink1URL: http://www.maxim-ic.com/
footprint SOIC8N_N (SOIC, 8-Leads, Body 4.9x3.9mm, Pitch 1.27mm, IPC Medium Density)
footprint SOIC8N_L (SOIC, 8-Leads, Body 4.9x3.9mm, Pitch 1.27mm, IPC High Density)
footprint SOIC8N_M (SOIC, 8-Leads, Body 4.9x3.9mm, Pitch 1.27mm, IPC Low Density)
3D model SOIC8N (8-Pin Small Outline Integrated Circuit 1.27 mm Pitch)
pins: 1 IN (in), 2 TAP2 (out), 3 TAP4 (out), 4 GND (power), 5 TAP5 (out), 6 TAP3 (out), 7 TAP1 (out), 8 VCC (power)

## DS1000Z-250
designator U?
5-Tap Silicon Delay Line; ComponentAvailability: Obsolete; Published: 13-Oct-2000; LatestRevisionDate: 13-Apr-2006; LatestRevisionNote: IPC-7351 Footprint Added.; DatasheetVersion: 17-Feb-1998; PackageVersion: 1999; PackageReference: SOIC8N; Publisher: Altium Limited; PackageDescription: 8-Pin Small Outline Integrated Circuit 1.27 mm Pitch; Code_IPC: SOIC127P600-8; ComponentLink1Description: Manufacturer Link; ComponentLink1URL: http://www.maxim-ic.com/
footprint SOIC8N_N (SOIC, 8-Leads, Body 4.9x3.9mm, Pitch 1.27mm, IPC Medium Density)
footprint SOIC8N_L (SOIC, 8-Leads, Body 4.9x3.9mm, Pitch 1.27mm, IPC High Density)
footprint SOIC8N_M (SOIC, 8-Leads, Body 4.9x3.9mm, Pitch 1.27mm, IPC Low Density)
3D model SOIC8N (8-Pin Small Outline Integrated Circuit 1.27 mm Pitch)
pins: 1 IN (in), 2 TAP2 (out), 3 TAP4 (out), 4 GND (power), 5 TAP5 (out), 6 TAP3 (out), 7 TAP1 (out), 8 VCC (power)

## DS1000Z-250-IND
designator U?
5-Tap High-Speed Silicon Delay Line; ComponentAvailability: Obsolete; Published: 13-Oct-2000; LatestRevisionDate: 13-Apr-2006; LatestRevisionNote: IPC-7351 Footprint Added.; DatasheetVersion: 17-Feb-1998; PackageVersion: 1999; PackageReference: SOIC8N; Publisher: Altium Limited; PackageDescription: 8-Pin Small Outline Integrated Circuit 1.27 mm Pitch; Code_IPC: SOIC127P600-8; ComponentLink1Description: Manufacturer Link; ComponentLink1URL: http://www.maxim-ic.com/
footprint SOIC8N_N (SOIC, 8-Leads, Body 4.9x3.9mm, Pitch 1.27mm, IPC Medium Density)
footprint SOIC8N_L (SOIC, 8-Leads, Body 4.9x3.9mm, Pitch 1.27mm, IPC High Density)
footprint SOIC8N_M (SOIC, 8-Leads, Body 4.9x3.9mm, Pitch 1.27mm, IPC Low Density)
3D model SOIC8N (8-Pin Small Outline Integrated Circuit 1.27 mm Pitch)
pins: 1 IN (in), 2 TAP2 (out), 3 TAP4 (out), 4 GND (power), 5 TAP5 (out), 6 TAP3 (out), 7 TAP1 (out), 8 VCC (power)

## DS1000Z-500
designator U?
5-Tap Silicon Delay Line; ComponentAvailability: Obsolete; Published: 13-Oct-2000; LatestRevisionDate: 13-Apr-2006; LatestRevisionNote: IPC-7351 Footprint Added.; DatasheetVersion: 17-Feb-1998; PackageVersion: 1999; PackageReference: SOIC8N; Publisher: Altium Limited; PackageDescription: 8-Pin Small Outline Integrated Circuit 1.27 mm Pitch; Code_IPC: SOIC127P600-8; ComponentLink1Description: Manufacturer Link; ComponentLink1URL: http://www.maxim-ic.com/
footprint SOIC8N_N (SOIC, 8-Leads, Body 4.9x3.9mm, Pitch 1.27mm, IPC Medium Density)
footprint SOIC8N_L (SOIC, 8-Leads, Body 4.9x3.9mm, Pitch 1.27mm, IPC High Density)
footprint SOIC8N_M (SOIC, 8-Leads, Body 4.9x3.9mm, Pitch 1.27mm, IPC Low Density)
3D model SOIC8N (8-Pin Small Outline Integrated Circuit 1.27 mm Pitch)
pins: 1 IN (in), 2 TAP2 (out), 3 TAP4 (out), 4 GND (power), 5 TAP5 (out), 6 TAP3 (out), 7 TAP1 (out), 8 VCC (power)

## DS1000Z-500-IND
designator U?
5-Tap High-Speed Silicon Delay Line; ComponentAvailability: Obsolete; Published: 13-Oct-2000; LatestRevisionDate: 13-Apr-2006; LatestRevisionNote: IPC-7351 Footprint Added.; DatasheetVersion: 17-Feb-1998; PackageVersion: 1999; PackageReference: SOIC8N; Publisher: Altium Limited; PackageDescription: 8-Pin Small Outline Integrated Circuit 1.27 mm Pitch; Code_IPC: SOIC127P600-8; ComponentLink1Description: Manufacturer Link; ComponentLink1URL: http://www.maxim-ic.com/
footprint SOIC8N_N (SOIC, 8-Leads, Body 4.9x3.9mm, Pitch 1.27mm, IPC Medium Density)
footprint SOIC8N_L (SOIC, 8-Leads, Body 4.9x3.9mm, Pitch 1.27mm, IPC High Density)
footprint SOIC8N_M (SOIC, 8-Leads, Body 4.9x3.9mm, Pitch 1.27mm, IPC Low Density)
3D model SOIC8N (8-Pin Small Outline Integrated Circuit 1.27 mm Pitch)
pins: 1 IN (in), 2 TAP2 (out), 3 TAP4 (out), 4 GND (power), 5 TAP5 (out), 6 TAP3 (out), 7 TAP1 (out), 8 VCC (power)

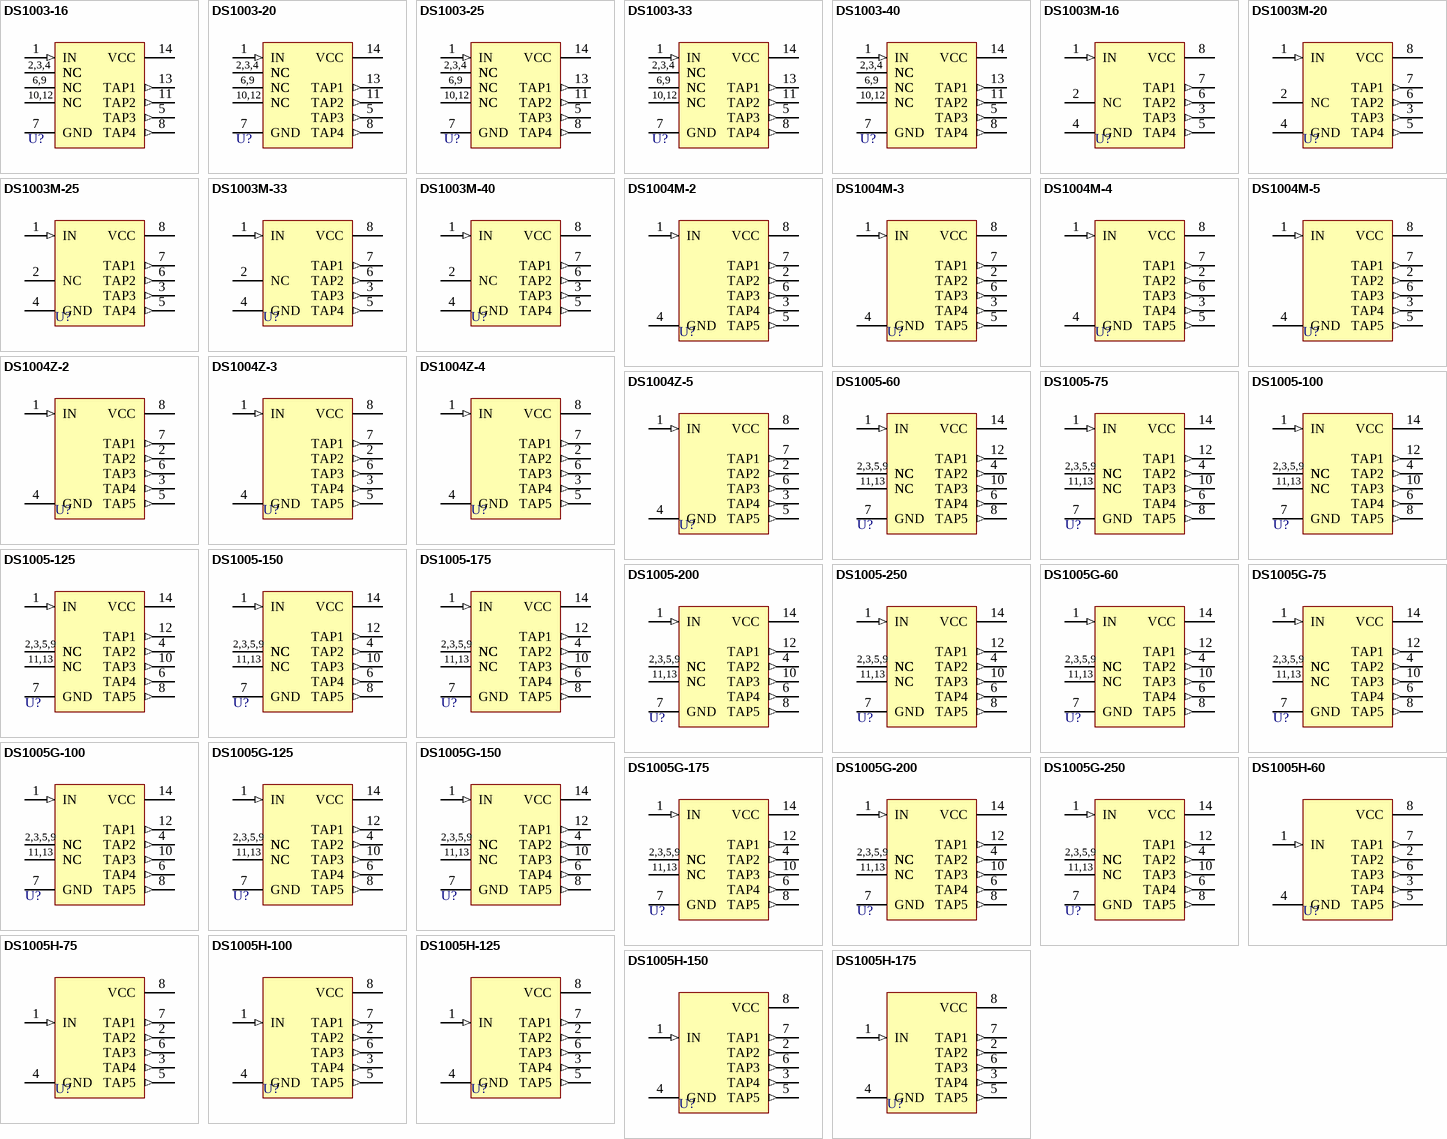
[diagram p4: symbols DS1003-16 to DS1005H-175]

## DS1003-16
designator U?
4-Tap Silicon Delay Line for RISC Applications; Note: Pin numbers 2, 3, 4, 6, 9, 10 and 12 are Not Connected (NC); Published: 13-Oct-2000; LatestRevisionDate: 06-Jun-2005; LatestRevisionNote: Stylized 3D Model Added.; DatasheetVersion: 17-Feb-1998; PackageVersion: 1999; PackageReference: DIP14; Publisher: Altium Limited; PackageDescription: DIP; 14 Leads; Row Spacing 7.62 mm; Pitch 2.54 mm; ComponentLink1Description: Manufacturer Link; ComponentLink1URL: http://www.maxim-ic.com/
footprint DIP14 (DIP; 14 Leads; Row Spacing 7.62 mm; Pitch 2.54 mm)
3D model DIP14 (DIP; 14 Leads; Row Spacing 7.62 mm; Pitch 2.54 mm)
pins: 1 IN (in), 2 NC, 3 NC, 4 NC, 5 TAP3 (out), 6 NC, 7 GND (power), 8 TAP4 (out), 9 NC, 10 NC, 11 TAP2 (out), 12 NC, 13 TAP1 (out), 14 VCC (power)
text: 2,3,4; 6,9; 10,12

## DS1003-20
designator U?
4-Tap Silicon Delay Line for RISC Applications; Note: Pin numbers 2, 3, 4, 6, 9, 10 and 12 are Not Connected (NC); Published: 13-Oct-2000; LatestRevisionDate: 06-Jun-2005; LatestRevisionNote: Stylized 3D Model Added.; DatasheetVersion: 17-Feb-1998; PackageVersion: 1999; PackageReference: DIP14; Publisher: Altium Limited; PackageDescription: DIP; 14 Leads; Row Spacing 7.62 mm; Pitch 2.54 mm; ComponentLink1Description: Manufacturer Link; ComponentLink1URL: http://www.maxim-ic.com/
footprint DIP14 (DIP; 14 Leads; Row Spacing 7.62 mm; Pitch 2.54 mm)
3D model DIP14 (DIP; 14 Leads; Row Spacing 7.62 mm; Pitch 2.54 mm)
pins: 1 IN (in), 2 NC, 3 NC, 4 NC, 5 TAP3 (out), 6 NC, 7 GND (power), 8 TAP4 (out), 9 NC, 10 NC, 11 TAP2 (out), 12 NC, 13 TAP1 (out), 14 VCC (power)
text: 2,3,4; 6,9; 10,12

## DS1003-25
designator U?
4-Tap Silicon Delay Line for RISC Applications; Note: Pin numbers 2, 3, 4, 6, 9, 10 and 12 are Not Connected (NC); Published: 13-Oct-2000; LatestRevisionDate: 06-Jun-2005; LatestRevisionNote: Stylized 3D Model Added.; DatasheetVersion: 17-Feb-1998; PackageVersion: 1999; PackageReference: DIP14; Publisher: Altium Limited; PackageDescription: DIP; 14 Leads; Row Spacing 7.62 mm; Pitch 2.54 mm; ComponentLink1Description: Manufacturer Link; ComponentLink1URL: http://www.maxim-ic.com/
footprint DIP14 (DIP; 14 Leads; Row Spacing 7.62 mm; Pitch 2.54 mm)
3D model DIP14 (DIP; 14 Leads; Row Spacing 7.62 mm; Pitch 2.54 mm)
pins: 1 IN (in), 2 NC, 3 NC, 4 NC, 5 TAP3 (out), 6 NC, 7 GND (power), 8 TAP4 (out), 9 NC, 10 NC, 11 TAP2 (out), 12 NC, 13 TAP1 (out), 14 VCC (power)
text: 2,3,4; 6,9; 10,12

## DS1003-33
designator U?
4-Tap Silicon Delay Line for RISC Applications; Note: Pin numbers 2, 3, 4, 6, 9, 10 and 12 are Not Connected (NC); Published: 13-Oct-2000; LatestRevisionDate: 06-Jun-2005; LatestRevisionNote: Stylized 3D Model Added.; DatasheetVersion: 17-Feb-1998; PackageVersion: 1999; PackageReference: DIP14; Publisher: Altium Limited; PackageDescription: DIP; 14 Leads; Row Spacing 7.62 mm; Pitch 2.54 mm; ComponentLink1Description: Manufacturer Link; ComponentLink1URL: http://www.maxim-ic.com/
footprint DIP14 (DIP; 14 Leads; Row Spacing 7.62 mm; Pitch 2.54 mm)
3D model DIP14 (DIP; 14 Leads; Row Spacing 7.62 mm; Pitch 2.54 mm)
pins: 1 IN (in), 2 NC, 3 NC, 4 NC, 5 TAP3 (out), 6 NC, 7 GND (power), 8 TAP4 (out), 9 NC, 10 NC, 11 TAP2 (out), 12 NC, 13 TAP1 (out), 14 VCC (power)
text: 2,3,4; 6,9; 10,12

## DS1003-40
designator U?
4-Tap Silicon Delay Line for RISC Applications; Note: Pin numbers 2, 3, 4, 6, 9, 10 and 12 are Not Connected (NC); Published: 13-Oct-2000; LatestRevisionDate: 06-Jun-2005; LatestRevisionNote: Stylized 3D Model Added.; DatasheetVersion: 17-Feb-1998; PackageVersion: 1999; PackageReference: DIP14; Publisher: Altium Limited; PackageDescription: DIP; 14 Leads; Row Spacing 7.62 mm; Pitch 2.54 mm; ComponentLink1Description: Manufacturer Link; ComponentLink1URL: http://www.maxim-ic.com/
footprint DIP14 (DIP; 14 Leads; Row Spacing 7.62 mm; Pitch 2.54 mm)
3D model DIP14 (DIP; 14 Leads; Row Spacing 7.62 mm; Pitch 2.54 mm)
pins: 1 IN (in), 2 NC, 3 NC, 4 NC, 5 TAP3 (out), 6 NC, 7 GND (power), 8 TAP4 (out), 9 NC, 10 NC, 11 TAP2 (out), 12 NC, 13 TAP1 (out), 14 VCC (power)
text: 2,3,4; 6,9; 10,12

## DS1003M-16
designator U?
4-Tap Silicon Delay Line for RISC Applications; Note: Pin number 2 is Not Connected (NC); Published: 13-Oct-2000; LatestRevisionDate: 06-Jun-2005; LatestRevisionNote: Stylized 3D Model Added.; DatasheetVersion: 17-Feb-1998; PackageVersion: 1999; PackageReference: DIP8; Publisher: Altium Limited; PackageDescription: DIP; 8 Leads; Row Spacing 7.62 mm; Pitch 2.54 mm; ComponentLink1Description: Manufacturer Link; ComponentLink1URL: http://www.maxim-ic.com/
footprint DIP8 (DIP; 8 Leads; Row Spacing 7.62 mm; Pitch 2.54 mm)
3D model DIP-8 (DIP; 8 Leads; Row Spacing 7.62 mm; Pitch 2.54 mm)
pins: 1 IN (in), 2 NC, 3 TAP3 (out), 4 GND (power), 5 TAP4 (out), 6 TAP2 (out), 7 TAP1 (out), 8 VCC (power)

## DS1003M-20
designator U?
4-Tap Silicon Delay Line for RISC Applications; Note: Pin number 2 is Not Connected (NC); Published: 13-Oct-2000; LatestRevisionDate: 06-Jun-2005; LatestRevisionNote: Stylized 3D Model Added.; DatasheetVersion: 17-Feb-1998; PackageVersion: 1999; PackageReference: DIP8; Publisher: Altium Limited; PackageDescription: DIP; 8 Leads; Row Spacing 7.62 mm; Pitch 2.54 mm; ComponentLink1Description: Manufacturer Link; ComponentLink1URL: http://www.maxim-ic.com/
footprint DIP8 (DIP; 8 Leads; Row Spacing 7.62 mm; Pitch 2.54 mm)
3D model DIP-8 (DIP; 8 Leads; Row Spacing 7.62 mm; Pitch 2.54 mm)
pins: 1 IN (in), 2 NC, 3 TAP3 (out), 4 GND (power), 5 TAP4 (out), 6 TAP2 (out), 7 TAP1 (out), 8 VCC (power)

## DS1003M-25
designator U?
4-Tap Silicon Delay Line for RISC Applications; Note: Pin number 2 is Not Connected (NC); Published: 13-Oct-2000; LatestRevisionDate: 06-Jun-2005; LatestRevisionNote: Stylized 3D Model Added.; DatasheetVersion: 17-Feb-1998; PackageVersion: 1999; PackageReference: DIP8; Publisher: Altium Limited; PackageDescription: DIP; 8 Leads; Row Spacing 7.62 mm; Pitch 2.54 mm; ComponentLink1Description: Manufacturer Link; ComponentLink1URL: http://www.maxim-ic.com/
footprint DIP8 (DIP; 8 Leads; Row Spacing 7.62 mm; Pitch 2.54 mm)
3D model DIP-8 (DIP; 8 Leads; Row Spacing 7.62 mm; Pitch 2.54 mm)
pins: 1 IN (in), 2 NC, 3 TAP3 (out), 4 GND (power), 5 TAP4 (out), 6 TAP2 (out), 7 TAP1 (out), 8 VCC (power)

## DS1003M-33
designator U?
4-Tap Silicon Delay Line for RISC Applications; Note: Pin number 2 is Not Connected (NC); Published: 13-Oct-2000; LatestRevisionDate: 06-Jun-2005; LatestRevisionNote: Stylized 3D Model Added.; DatasheetVersion: 17-Feb-1998; PackageVersion: 1999; PackageReference: DIP8; Publisher: Altium Limited; PackageDescription: DIP; 8 Leads; Row Spacing 7.62 mm; Pitch 2.54 mm; ComponentLink1Description: Manufacturer Link; ComponentLink1URL: http://www.maxim-ic.com/
footprint DIP8 (DIP; 8 Leads; Row Spacing 7.62 mm; Pitch 2.54 mm)
3D model DIP-8 (DIP; 8 Leads; Row Spacing 7.62 mm; Pitch 2.54 mm)
pins: 1 IN (in), 2 NC, 3 TAP3 (out), 4 GND (power), 5 TAP4 (out), 6 TAP2 (out), 7 TAP1 (out), 8 VCC (power)

## DS1003M-40
designator U?
4-Tap Silicon Delay Line for RISC Applications; Note: Pin number 2 is Not Connected (NC); Published: 13-Oct-2000; LatestRevisionDate: 06-Jun-2005; LatestRevisionNote: Stylized 3D Model Added.; DatasheetVersion: 17-Feb-1998; PackageVersion: 1999; PackageReference: DIP8; Publisher: Altium Limited; PackageDescription: DIP; 8 Leads; Row Spacing 7.62 mm; Pitch 2.54 mm; ComponentLink1Description: Manufacturer Link; ComponentLink1URL: http://www.maxim-ic.com/
footprint DIP8 (DIP; 8 Leads; Row Spacing 7.62 mm; Pitch 2.54 mm)
3D model DIP-8 (DIP; 8 Leads; Row Spacing 7.62 mm; Pitch 2.54 mm)
pins: 1 IN (in), 2 NC, 3 TAP3 (out), 4 GND (power), 5 TAP4 (out), 6 TAP2 (out), 7 TAP1 (out), 8 VCC (power)

## DS1004M-2
designator U?
5-Tap High-Speed Silicon Delay Line; Published: 13-Oct-2000; LatestRevisionDate: 06-Jun-2005; LatestRevisionNote: Stylized 3D Model Added.; DatasheetVersion: 17-Feb-1998; PackageVersion: 1999; PackageReference: DIP8; Publisher: Altium Limited; PackageDescription: DIP; 8 Leads; Row Spacing 7.62 mm; Pitch 2.54 mm; ComponentLink1Description: Manufacturer Link; ComponentLink1URL: http://www.maxim-ic.com/; ComponentLink2Description: Datasheet; ComponentLink2URL: http://www.maxim-ic.com/getds.cfm?qv_pk=2601&ln=en
footprint DIP8 (DIP; 8 Leads; Row Spacing 7.62 mm; Pitch 2.54 mm)
3D model DIP-8 (DIP; 8 Leads; Row Spacing 7.62 mm; Pitch 2.54 mm)
pins: 1 IN (in), 2 TAP2 (out), 3 TAP4 (out), 4 GND (power), 5 TAP5 (out), 6 TAP3 (out), 7 TAP1 (out), 8 VCC (power)

## DS1004M-3
designator U?
5-Tap High-Speed Silicon Delay Line; Published: 13-Oct-2000; LatestRevisionDate: 06-Jun-2005; LatestRevisionNote: Stylized 3D Model Added.; DatasheetVersion: 17-Feb-1998; PackageVersion: 1999; PackageReference: DIP8; Publisher: Altium Limited; PackageDescription: DIP; 8 Leads; Row Spacing 7.62 mm; Pitch 2.54 mm; ComponentLink1Description: Manufacturer Link; ComponentLink1URL: http://www.maxim-ic.com/; ComponentLink2Description: Datasheet; ComponentLink2URL: http://www.maxim-ic.com/getds.cfm?qv_pk=2601&ln=en
footprint DIP8 (DIP; 8 Leads; Row Spacing 7.62 mm; Pitch 2.54 mm)
3D model DIP-8 (DIP; 8 Leads; Row Spacing 7.62 mm; Pitch 2.54 mm)
pins: 1 IN (in), 2 TAP2 (out), 3 TAP4 (out), 4 GND (power), 5 TAP5 (out), 6 TAP3 (out), 7 TAP1 (out), 8 VCC (power)

## DS1004M-4
designator U?
5-Tap High-Speed Silicon Delay Line; Published: 13-Oct-2000; LatestRevisionDate: 06-Jun-2005; LatestRevisionNote: Stylized 3D Model Added.; DatasheetVersion: 17-Feb-1998; PackageVersion: 1999; PackageReference: DIP8; Publisher: Altium Limited; PackageDescription: DIP; 8 Leads; Row Spacing 7.62 mm; Pitch 2.54 mm; ComponentLink1Description: Manufacturer Link; ComponentLink1URL: http://www.maxim-ic.com/; ComponentLink2Description: Datasheet; ComponentLink2URL: http://www.maxim-ic.com/getds.cfm?qv_pk=2601&ln=en
footprint DIP8 (DIP; 8 Leads; Row Spacing 7.62 mm; Pitch 2.54 mm)
3D model DIP-8 (DIP; 8 Leads; Row Spacing 7.62 mm; Pitch 2.54 mm)
pins: 1 IN (in), 2 TAP2 (out), 3 TAP4 (out), 4 GND (power), 5 TAP5 (out), 6 TAP3 (out), 7 TAP1 (out), 8 VCC (power)

## DS1004M-5
designator U?
5-Tap High-Speed Silicon Delay Line; Published: 13-Oct-2000; LatestRevisionDate: 06-Jun-2005; LatestRevisionNote: Stylized 3D Model Added.; DatasheetVersion: 17-Feb-1998; PackageVersion: 1999; PackageReference: DIP8; Publisher: Altium Limited; PackageDescription: DIP; 8 Leads; Row Spacing 7.62 mm; Pitch 2.54 mm; ComponentLink1Description: Manufacturer Link; ComponentLink1URL: http://www.maxim-ic.com/; ComponentLink2Description: Datasheet; ComponentLink2URL: http://www.maxim-ic.com/getds.cfm?qv_pk=2601&ln=en
footprint DIP8 (DIP; 8 Leads; Row Spacing 7.62 mm; Pitch 2.54 mm)
3D model DIP-8 (DIP; 8 Leads; Row Spacing 7.62 mm; Pitch 2.54 mm)
pins: 1 IN (in), 2 TAP2 (out), 3 TAP4 (out), 4 GND (power), 5 TAP5 (out), 6 TAP3 (out), 7 TAP1 (out), 8 VCC (power)